# Altium schematic symbol library CAP-SM-0603-NP0-12pF.Schlib: 1 symbol
Pins are listed as number, name and electrical type; pins without a type are passive.

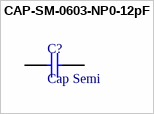
[diagram p0: symbol CAP-SM-0603-NP0-12pF]

## CAP-SM-0603-NP0-12pF
designator C?, comment Cap Semi
CAP SM 0603 NP0 12pF 10%
pins: 1, 2